# Altium footprint library RU_connectors.PcbLib: 17 footprints (part 2 of 2)
Each footprint in its own frame and in the unit in brackets; x right, y up, seen from the top. Pads: shape width x height; smd on the part's side, far side on the other; paste and mask are expansions set on the pad; w line width, h text height; cw(c..) or ccw(c..) is an arc to the next point about the centre after c.
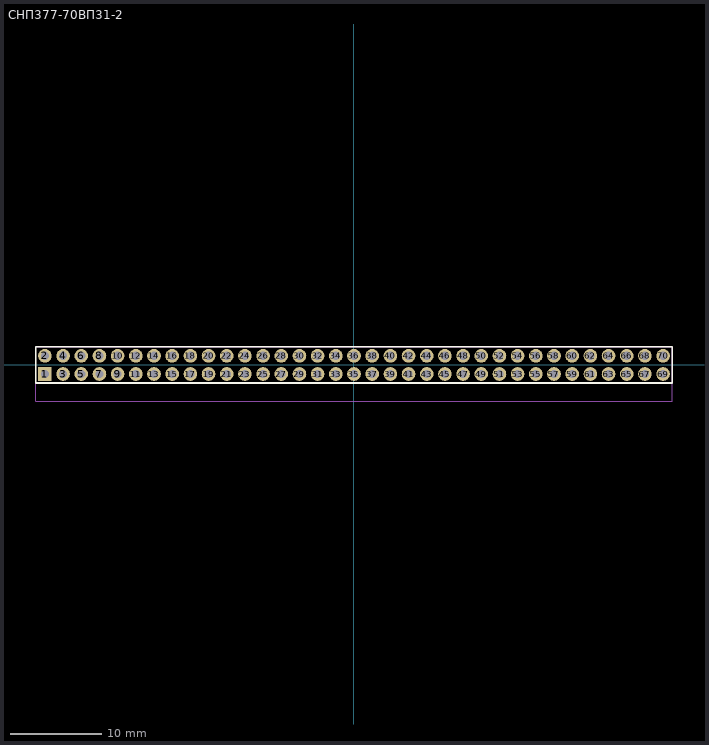
[diagram p1: the footprint, top view; thin cyan lines are the x and y axes]

## СНП377-70ВП31-2 [mm] "Вилка серии СНП377, угловая, двухрядная, 70 выводов"
height 4
pads (70):
  rect 1.5x1.5 hole 0.9: 1(-34,-1)
  round 1.5 hole 0.9: 2(-34,1) 3(-32,-1) 4(-32,1) 5(-30,-1) 6(-30,1) 7(-28,-1) 8(-28,1) 9(-26,-1) 10(-26,1) 11(-24,-1) 12(-24,1) 13(-22,-1) 14(-22,1) 15(-20,-1) 16(-20,1) 17(-18,-1) 18(-18,1) 19(-16,-1) 20(-16,1) 21(-14,-1) 22(-14,1) 23(-12,-1) 24(-12,1) 25(-10,-1) 26(-10,1) 27(-8,-1) 28(-8,1) 29(-6,-1) 30(-6,1) 31(-4,-1) 32(-4,1) 33(-2,-1) 34(-2,1) 35(0,-1) 36(0,1) 37(2,-1) 38(2,1) 39(4,-1) 40(4,1) 41(6,-1) 42(6,1) 43(8,-1) 44(8,1) 45(10,-1) 46(10,1) 47(12,-1) 48(12,1) 49(14,-1) 50(14,1) 51(16,-1) 52(16,1) 53(18,-1) 54(18,1) 55(20,-1) 56(20,1) 57(22,-1) 58(22,1) 59(24,-1) 60(24,1) 61(26,-1) 62(26,1) 63(28,-1) 64(28,1) 65(30,-1) 66(30,1) 67(32,-1) 68(32,1) 69(34,-1) 70(34,1)
Top Overlay:
  lines w0.2: -35,-2 35,-2 35,2 -35,2 -35,-2
Top Assembly:
  circle w0.4: c-34.1,-1.1 r0.2
  lines w0.1: -35,-2 -35,2 35,2 35,-2 -35,-2
  text ".Designator" at -4.998,-0.333 h1
Top Courtyard (Mech15):
  lines w0.05: -35,-4 35,-4 35,2 -35,2 -35,-4